# EAGLE library part SSTW003A0A41-SRZ (library FSAE Electric (Alexander Ray's conflicted copy 2016-04-02))
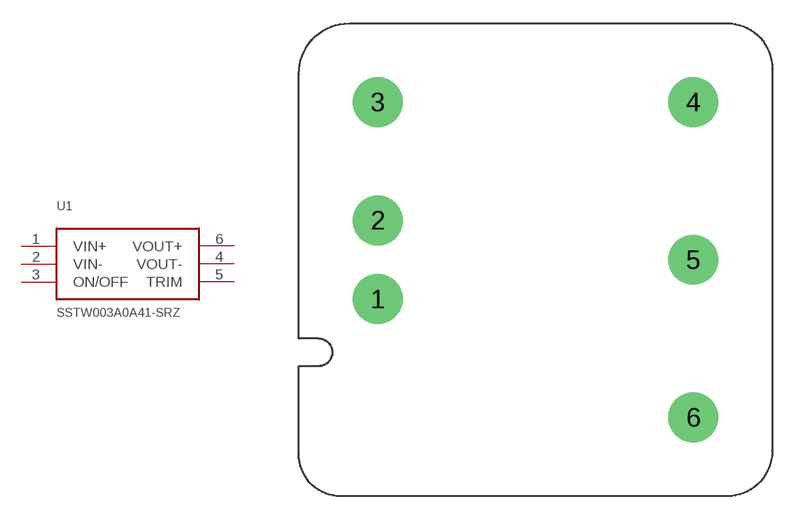
[diagram p43: symbol with the pads of SSTW003A0A41-SRZ; footprint SSTW003A0A41-SRZ]

Designator prefix U1

## SSTW003A0A41-SRZ (PARTNO: SSTW003A0A41Z)  [SSTW003A0A41-SRZ]
1  VIN+
2  VIN-
3  ON/OFF
4  VOUT-
5  TRIM
6  VOUT+

## Footprint SSTW003A0A41-SRZ (pad centres in mm)
drill 2.2: 1 -10.16,-2.54; 2 -10.16,2.54; 3 -10.16,10.16; 4 10.16,10.16; 5 10.16,0; 6 10.16,-10.16